# Altium footprint library WeatherStations.PcbLib: 12 footprints
Each footprint in its own frame and in the unit in brackets; x right, y up, seen from the top. Pads: shape width x height; smd on the part's side, far side on the other; paste and mask are expansions set on the pad; w line width, h text height; cw(c..) or ccw(c..) is an arc to the next point about the centre after c.
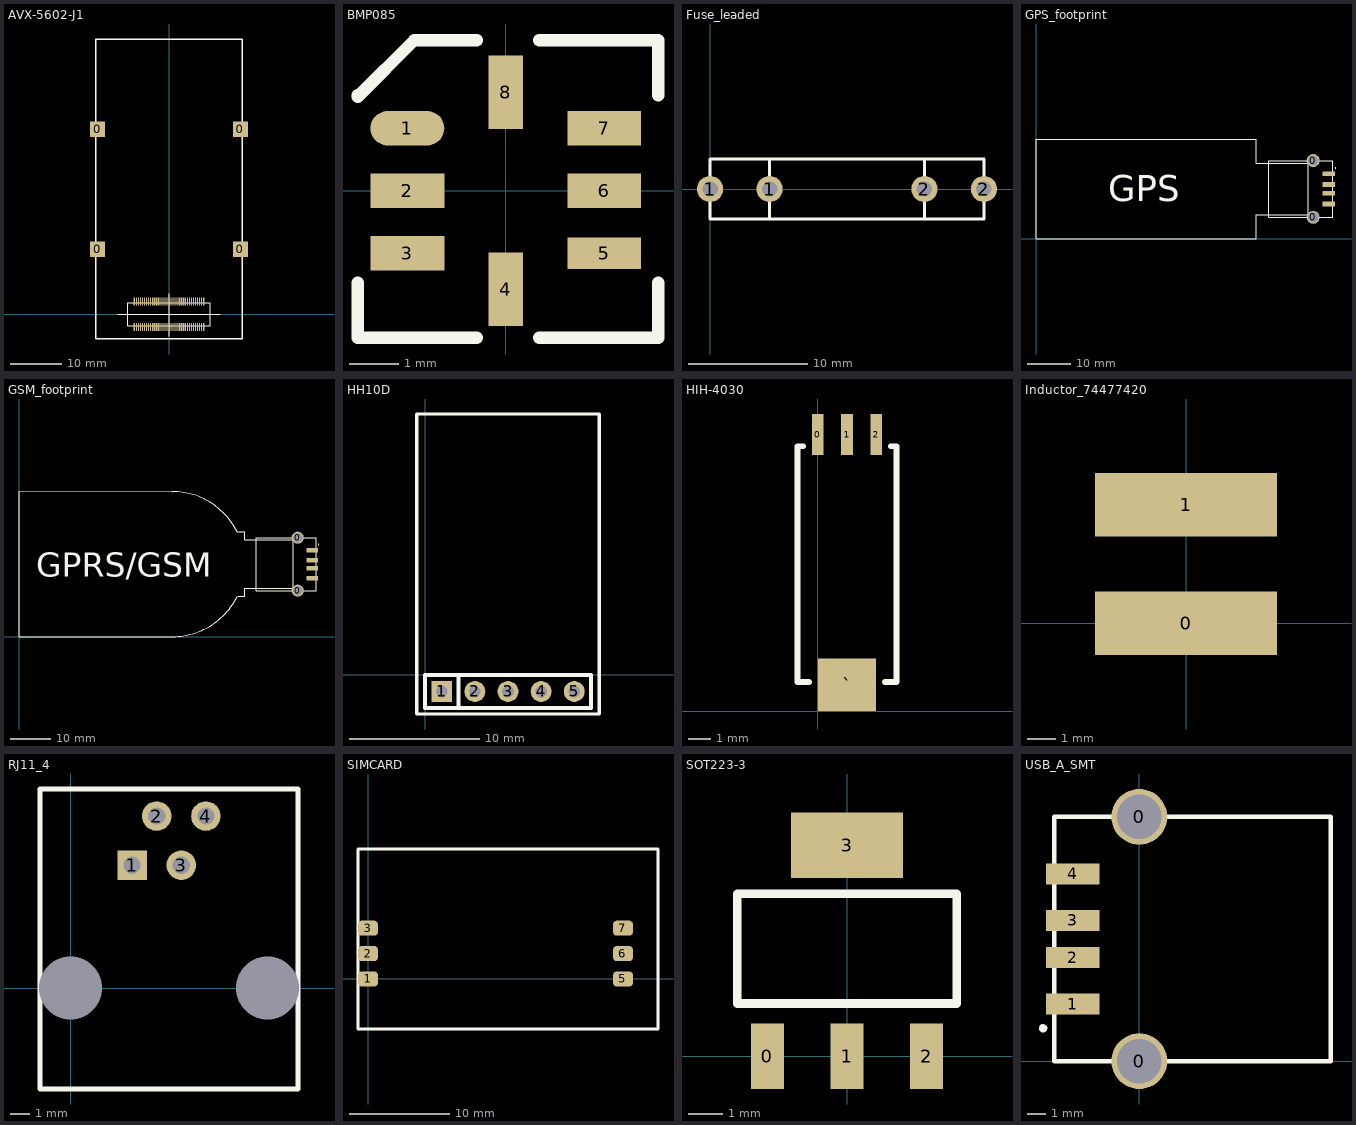
[diagram p0: the footprints below, top view; thin cyan lines are the x and y axes]

## AVX-5602-J1 [mm] "Receptacle Vertical SMT Without metal tab"
height 1.5
pads (74):
  rect 3x3 smd: 0(-14,12.75) 0(-14,36.25) 0(14,12.75) 0(14,36.25)
  rect 0.23x1.5 smd: J1_1(-6.8,-2.5) J1_2(-6.4,-2.5) J1_3(-6,-2.5) J1_4(-5.6,-2.5) J1_5(-5.2,-2.5) J1_6(-4.8,-2.5) J1_7(-4.4,-2.5) J1_8(-4,-2.5) J1_9(-3.6,-2.5) J1_10(-3.2,-2.5) J1_11(-2.8,-2.5) J1_12(-2.4,-2.5) J1_13(-2,-2.5) J1_14(-1.6,-2.5) J1_15(-1.2,-2.5) J1_16(-0.8,-2.5) J1_17(-0.4,-2.5) J1_18(0,-2.5) J1_19(0.4,-2.5) J1_20(0.8,-2.5) J1_21(1.2,-2.5) J1_22(1.6,-2.5) J1_23(2,-2.5) J1_24(2.4,-2.5) J1_25(2.8,-2.5) J1_26(3.2,-2.5) J1_27(3.6,-2.5) J1_28(4,-2.5) J1_29(4.4,-2.5) J1_30(4.8,-2.5) J1_31(5.2,-2.5) J1_32(5.6,-2.5) J1_33(6,-2.5) J1_34(6.4,-2.5) J1_35(6.8,-2.5) J1_36(6.8,2.5) J1_37(6.4,2.5) J1_38(6,2.5) J1_39(5.6,2.5) J1_40(5.2,2.5) J1_41(4.8,2.5) J1_42(4.4,2.5) J1_43(4,2.5) J1_44(3.6,2.5) J1_45(3.2,2.5) J1_46(2.8,2.5) J1_47(2.4,2.5) J1_48(2,2.5) J1_49(1.6,2.5) J1_50(1.2,2.5) J1_51(0.8,2.5) J1_52(0.4,2.5) J1_53(0,2.5) J1_54(-0.4,2.5) J1_55(-0.8,2.5) J1_56(-1.2,2.5) J1_57(-1.6,2.5) J1_58(-2,2.5) J1_59(-2.4,2.5) J1_60(-2.8,2.5) J1_61(-3.2,2.5) J1_62(-3.6,2.5) J1_63(-4,2.5) J1_64(-4.4,2.5) J1_65(-4.8,2.5) J1_66(-5.2,2.5) J1_67(-5.6,2.5) J1_68(-6,2.5) J1_69(-6.4,2.5) J1_70(-6.8,2.5)
Top Overlay:
  lines w0.1: -10,0 10,0 ; 0,-4.3 0,4.05 ; -8.05,-2.25 -8.05,2.25 8.05,2.25 8.05,-2.25 -8.05,-2.25
  lines w0.254: -14.4,-4.85 14.4,-4.85 14.4,53.95 -14.4,53.95 -14.4,-4.85

## BMP085 [mm]
pads (8):
  oval 1.5x0.7 smd: 1(-2,1.27)
  rect 1.5x0.7 smd: 2(-2,0) 3(-2,-1.27) 6(2,0) 7(2,1.27)
  rect 0.7x1.5 smd: 4(0,-2) 8(0,2)
  rect 1.5x0.635 smd: 5(2,-1.27)
Top Overlay:
  lines w0.254: -3.003,-1.87 -3.003,-2.987 -0.59,-2.987 ; -3.003,1.94 -3.003,1.915 -1.86,3.058 -0.59,3.058 ; 0.68,-2.987 3.093,-2.987 3.093,-1.87 ; 0.68,3.058 3.093,3.058 3.093,1.94

## Fuse_leaded [mm]
pads (4):
  round 2.2 hole 1.3: 1(0,0) 1(5,0) 2(18,0) 2(23,0)
Top Overlay:
  lines w0.254: 5,-2.46 5,0 5,2.493 ; 18,-2.379 18,0 18,2.506 ; 0,-2.54 22.987,-2.54 23,-2.527 23,2.527 22.987,2.54 22.733,2.54 0,2.54 0,0 0,-2.54

## GPS_footprint [mm]
pads (6):
  round 3 hole 2.4: 0(64.119,4.951) 0(64.119,18.091)
  rect 2.88x1.12 smd: 1(67.699,15.021) 2(67.699,12.521) 3(67.699,10.521) 4(67.699,8.021)
Top Overlay:
  lines w0.254: 69.228,16.25 cw(c69.299,16.321) 69.299,16.221 ; 0,0 0,23 51,23 51,17.5 63,17.5 63,5.5 51,5.5 51,0 0,0 ; 53.819,4.951 68.699,4.951 68.699,18.091 53.819,18.091 53.819,4.951
  text "GPS" at 16.764,8.636 h6

## GSM_footprint [mm]
pads (6):
  round 3 hole 2.4: 0(69.168,11.428) 0(69.168,24.568)
  rect 2.88x1.12 smd: 1(72.748,21.498) 2(72.748,18.998) 3(72.748,16.998) 4(72.748,14.498)
Top Overlay:
  lines w0.254: 0,36 0,0 38,0 ccw(c38,18) 54.109,9.968 ; 0,36.068 38,36 cw(c38,18) 54.109,26.032 ; 54.109,26 56,26 56,24.003 68,24.003 ; 54.231,10 56,10 56,12 68,12 68,24 ; 74.277,22.727 cw(c74.348,22.798) 74.348,22.698 ; 58.868,11.428 58.868,24.568 73.748,24.568 73.748,11.428 58.868,11.428
  text "GPRS/GSM" at 4.287,14.859 h6

## HH10D [mm]
pads (5):
  rect 1.6x1.6 hole 0.9: 1(1.27,-1.27)
  round 1.6 hole 0.9: 2(3.81,-1.27) 3(6.35,-1.27) 4(8.89,-1.27) 5(11.43,-1.27)
Top Overlay:
  lines w0.254: -0.635,-3 13.335,-3 13.335,20 -0.635,20 -0.635,-3
  lines w0.305: 2.54,-2.54 2.54,0 ; 0,-2.54 0,0 12.7,0 12.7,-2.54 0,-2.54

## HIH-4030 [mm]
pads (4):
  rect 0.51x1.79 smd: 0(0,12.065) 1(1.27,12.065) 2(2.54,12.065)
  rect 2.54x2.29 smd: `(1.27,1.143)
Top Overlay:
  lines w0.254: -0.635,11.557 -0.889,11.557 -0.889,1.27 -0.381,1.27 ; 2.921,1.27 3.429,1.27 3.429,11.557 3.175,11.557

## Inductor_74477420 [mm]
pads (2):
  rect 6.3x2.2 smd: 0(0,0) 1(0,4.1)

## RJ11_4 [mil]
pads (6):
  round 0 hole 128: 0(0,0) 0(400,0)
  rect 60x60 hole 35: 1(125,250)
  round 60 hole 35: 2(175,350) 3(225,250) 4(275,350)
Top Overlay:
  lines w10: -62.5,-205 -62.5,405 462.5,405 462.5,-205 -62.5,-205

## SIMCARD [mm]
pads (6):
  rrect50% 2x1.5 smd: 1(0,0) 2(0,2.54) 3(0,5.08) 5(25.5,0) 6(25.5,2.54) 7(25.5,5.08)
Top Overlay:
  lines w0.254: -1,-5 29,-5 29,13 -1,13 -1,-5

## SOT223-3 [mm]
pads (4):
  rect 0.95x1.9 smd: 0(-2.3,0) 1(0,0) 2(2.3,0)
  rect 3.25x1.9 smd: 3(0,6.1)
Top Overlay:
  lines w0.254: -3.175,1.524 -3.175,4.699 3.175,4.699 3.175,1.524 -3.175,1.524

## USB_A_SMT [mm]
pads (6):
  round 3 hole 2.4: 0(0,0) 0(0,13.14)
  rect 2.88x1.12 smd: 1(-3.58,3.07) 2(-3.58,5.57) 3(-3.58,7.57) 4(-3.58,10.07)
Top Overlay:
  lines w0.254: -5.18,1.87 ccw(c-5.18,1.77) -5.109,1.841 ; -4.58,0 10.3,0 10.3,13.14 -4.58,13.14 -4.58,0